# Altium schematic symbol library Schlib1.SchLib: 1 symbol
Pins are listed as number, name and electrical type; pins without a type are passive.

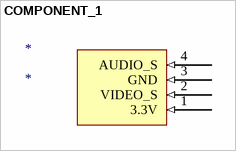
[diagram p0: symbol COMPONENT_1]

## COMPONENT_1
designator *
footprint PCBComponent_1
pins: 1 3.3V (in), 2 VIDEO_S (in), 3 GND (in), 4 AUDIO_S (in)